# EAGLE library part ICM7228AIBIZ (library hsk_2012)
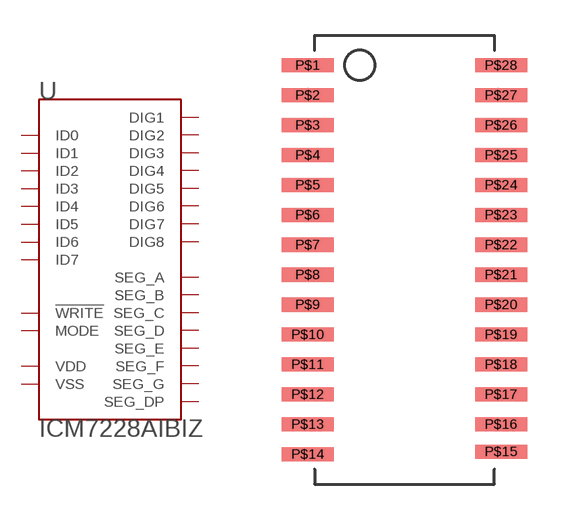
[diagram p12: symbol with the pads of SOICW-28; footprint SOICW-28]

Designator prefix -

## ICM7228AIBIZ  [SOICW-28]
P$1  SEG_C  out
P$2  SEG_E  out
P$3  SEG_B  out
P$4  SEG_DP  out
P$5  ID6  in
P$6  ID5  in
P$7  ID7  in
P$8  !WRITE  in
P$9  MODE  in
P$10  ID4  in
P$11  ID1  in
P$12  ID0  in
P$13  ID2  in
P$14  ID3  in
P$15  DIG1  out
P$16  DIG2  out
P$17  DIG5  out
P$18  DIG8  out
P$19  VDD  pwr
P$20  DIG4  out
P$21  DIG7  out
P$22  DIG6  out
P$23  DIG3  out
P$24  SEG_F  out
P$25  SEG_D  out
P$26  SEG_G  out
P$27  SEG_A  out
P$28  VSS  sup

## Footprint SOICW-28 (pad centres in mm)
SOICW 28 Lead
smd 2.2 x 0.6: P$1 -4.1,8.255; P$2 -4.1,6.985; P$3 -4.1,5.715; P$4 -4.1,4.445; P$5 -4.1,3.175; P$6 -4.1,1.905; P$7 -4.1,0.635; P$8 -4.1,-0.635; P$9 -4.1,-1.905; P$10 -4.1,-3.175; P$11 -4.1,-4.445; P$12 -4.1,-5.715; P$13 -4.1,-6.985; P$14 -4.1,-8.255; P$15 4.1,-8.145; P$16 4.1,-6.985; P$17 4.1,-5.715; P$18 4.1,-4.445; P$19 4.1,-3.175; P$20 4.1,-1.905; P$21 4.1,-0.635; P$22 4.1,0.635; P$23 4.1,1.905; P$24 4.1,3.175; P$25 4.1,4.445; P$26 4.1,5.715; P$27 4.1,6.985; P$28 4.1,8.255